# Altium schematic symbol library MCP2221A-I_ST.SchLib: 1 symbol
Pins are listed as number, name and electrical type; pins without a type are passive.

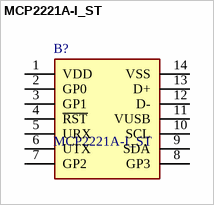
[diagram p0: symbol MCP2221A-I_ST]

## MCP2221A-I_ST
designator B?
USB 2.0 to I2C/UART Protocol Converter; Manufacturer_Name: Microchip; Manufacturer_Part_Number: MCP2221A-I/ST; Geometry.Height: 1.2mm; Mouser Part Number: 579-MCP2221A-I/ST; Mouser Price/Stock: https://www.mouser.co.uk/ProductDetail/Microchip-Technology/MCP2221A-I-ST?qs=ZEMkBHnybREMkqMgzOrcGQ%3D%3D; Datasheet Link: http://ww1.microchip.com/downloads/en/devicedoc/20005565b.pdf
footprint SOP65P640X120-14N
pins: 1 VDD, 2 GP0, 3 GP1, 4 ~{RST}, 5 URX, 6 UTX, 7 GP2, 8 GP3, 9 SDA, 10 SCL, 11 VUSB, 12 D-, 13 D+, 14 VSS